# EAGLE library part RAM_32K_8 (library ProjectComponent)
32k x 8bit RAM Jeremiah Ohlman
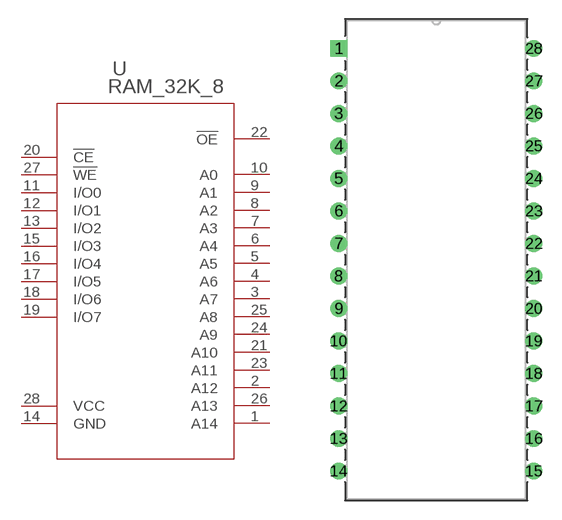
[diagram p9: symbol with the pads of 28P6; footprint 28P6]

Designator prefix U

## RAM_32K_8  [28P6]
1  A14  pas
2  A12  pas
3  A7  pas
4  A6  pas
5  A5  pas
6  A4  pas
7  A3  pas
8  A2  pas
9  A1  pas
10  A0  pas
11  I/O0
12  I/O1
13  I/O2
14  GND  pwr
15  I/O3
16  I/O4
17  I/O5
18  I/O6
19  I/O7
20  !CE  pas
21  A10  pas
22  !OE  out
23  A11  pas
24  A9  pas
25  A8  pas
26  A13  pas
27  !WE  pas
28  VCC  pwr

## Footprint 28P6 (pad centres in mm)
drill 0.813 pad 1.321 square: 1 -15.24,33.02
drill 0.813 pad 1.321: 2 -15.24,30.48; 3 -15.24,27.94; 4 -15.24,25.4; 5 -15.24,22.86; 6 -15.24,20.32; 7 -15.24,17.78; 8 -15.24,15.24; 9 -15.24,12.7; 10 -15.24,10.16; 11 -15.24,7.62; 12 -15.24,5.08; 13 -15.24,2.54; 14 -15.24,0; 15 0,0; 16 0,2.54; 17 0,5.08; 18 0,7.62; 19 0,10.16; 20 0,12.7; 21 0,15.24; 22 0,17.78; 23 0,20.32; 24 0,22.86; 25 0,25.4; 26 0,27.94; 27 0,30.48; 28 0,33.02